# EAGLE library part DT028ATFT-TS_2.8TFT (library arducorder-mini)
DisplayTech DT028ATFT-TS 2.8" 320x240 TFT LCD w/Touchpanel (ILI9341 Controller)
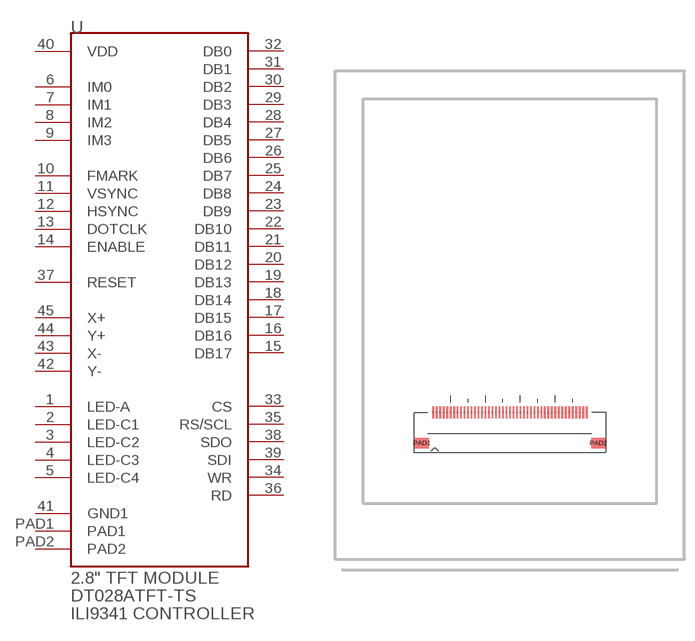
[diagram p18: symbol with the pads of XF2M-4515-1A-2.8LCD; footprint XF2M-4515-1A-2.8LCD]

Designator prefix -

## DT028ATFT-TS_2.8TFT  [XF2M-4515-1A-2.8LCD]
1  LED-A
2  LED-C1
3  LED-C2
4  LED-C3
5  LED-C4
6  IM0
7  IM1
8  IM2
9  IM3
10  FMARK
11  VSYNC
12  HSYNC
13  DOTCLK
14  ENABLE
15  DB17
16  DB16
17  DB15
18  DB14
19  DB13
20  DB12
21  DB11
22  DB10
23  DB9
24  DB8
25  DB7
26  DB6
27  DB5
28  DB4
29  DB3
30  DB2
31  DB1
32  DB0
33  CS
34  WR
35  RS/SCL
36  RD
37  RESET
38  SDO
39  SDI
40  VDD
41  GND1
42  Y-
43  X-
44  Y+
45  X+
PAD1  PAD1
PAD2  PAD2

## Footprint XF2M-4515-1A-2.8LCD (pad centres in mm)
smd 0.25 x 1.75: 1 11,3.02; 2 10.5,3.02; 3 10,3.02; 4 9.5,3.02; 5 9,3.02; 6 8.5,3.02; 7 8,3.02; 8 7.5,3.02; 9 7,3.02; 10 6.5,3.02; 11 6,3.02; 12 5.5,3.02; 13 5,3.02; 14 4.5,3.02; 15 4,3.02; 16 3.5,3.02; 17 3,3.02; 18 2.5,3.02; 19 2,3.02; 20 1.5,3.02; 21 1,3.02; 22 0.5,3.02; 23 0,3.02; 24 -0.5,3.02; 25 -1,3.02; 26 -1.5,3.02; 27 -2,3.02; 28 -2.5,3.02; 29 -3,3.02; 30 -3.5,3.02; 31 -4,3.02; 32 -4.5,3.02; 33 -5,3.02; 34 -5.5,3.02; 35 -6,3.02; 36 -6.5,3.02; 37 -7,3.02; 38 -7.5,3.02; 39 -8,3.02; 40 -8.5,3.02; 41 -9,3.02; 42 -9.5,3.02; 43 -10,3.02; 44 -10.5,3.02; 45 -11,3.02
smd 2 x 1.5: PAD1 -12.61,-1.34; PAD2 12.68,-1.35